# Altium schematic symbol library ArduinoMEGA.SchLib: 1 symbol
Pins are listed as number, name and electrical type; pins without a type are passive.

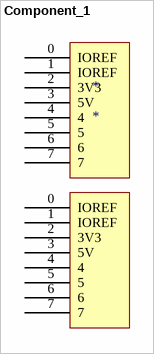
[diagram p0: symbol Component_1]

## Component_1
designator *
pins: 0 IOREF, 0 IOREF, 1 IOREF, 1 IOREF, 2 3V3, 2 3V3, 3 5V, 3 5V, 4, 4, 5, 5, 6, 6, 7, 7